# Altium integrated library 1N914BWT.IntLib: 1 symbol
Pins are listed as number, name and electrical type; pins without a type are passive.

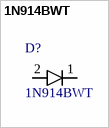
[diagram p0: symbol 1N914BWT]

## 1N914BWT
designator D?
DIODE GEN PURP 75V 200MA SOD523F / Manufacturer PN: 1N914BWT; MF: ON Semiconductor; MP: 1N4148WT; Package: S-9 Good-Ark; Digi-Key_Purchase_URL: https://www.digikey.com/product-detail/en/on-semiconductor/1N4148WT/1N4148WTCT-ND/2094398?utm_source=snapeda&utm_medium=aggregator&utm_campaign=symbol; Digi-Key_Part_Number: 1N4148WTCT-ND; SnapEDA_Link: https://www.snapeda.com/parts/1N4148WT/ON%20Semiconductor/view-part/?ref=snap; Value: *
footprint SOD523F
pins: 1 C, 2 A